# Altium footprint library Esp's.PcbLib: 2 footprints
Each footprint in its own frame and in the unit in brackets; x right, y up, seen from the top. Pads: shape width x height; smd on the part's side, far side on the other; paste and mask are expansions set on the pad; w line width, h text height; cw(c..) or ccw(c..) is an arc to the next point about the centre after c.
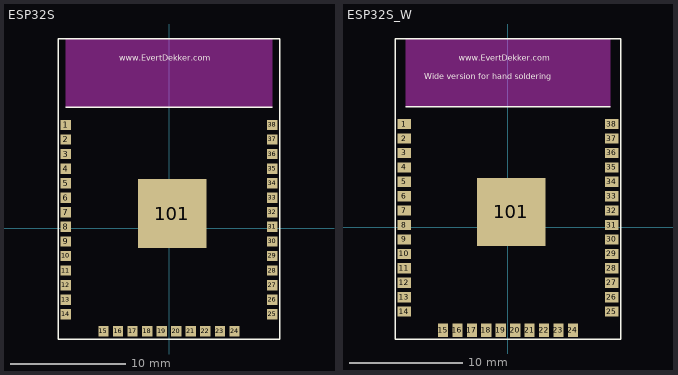
[diagram p0: the footprints below, top view; thin cyan lines are the x and y axes]

## ESP32S [mm] "ESP32S-Module"
height 2.8
pads (39):
  rect 0.9x0.9 smd: 1(-9.017,9) 2(-9.017,7.73) 3(-9.017,6.46) 4(-9.017,5.19) 5(-9.017,3.92) 6(-9.017,2.65) 7(-9.017,1.38) 8(-9.017,0.11) 9(-9.017,-1.16) 10(-9.017,-2.43) 11(-9.017,-3.7) 12(-9.017,-4.97) 13(-9.017,-6.24) 14(-9.017,-7.51) 15(-5.717,-9) 16(-4.447,-9) 17(-3.177,-9) 18(-1.907,-9) 19(-0.637,-9) 20(0.633,-9) 21(1.903,-9) 22(3.173,-9) 23(4.443,-9) 24(5.713,-9) 25(9.017,-7.51) 26(9.017,-6.24) 27(9.017,-4.97) 28(9.017,-3.7) 29(9.017,-2.43) 30(9.017,-1.16) 31(9.017,0.11) 32(9.017,1.38) 33(9.017,2.65) 34(9.017,3.92) 35(9.017,5.19) 36(9.017,6.46) 37(9.017,7.73) 38(9.017,9)
  rect 6x6 smd: 101(0.283,1.266)
Top Overlay:
  lines w0.127: -9.017,10.524 9.017,10.524 ; -9.652,-9.669 -9.652,16.493 9.652,16.493 9.652,-9.669 3.715,-9.669 -4.35,-9.669 -4.953,-9.669 -9.652,-9.669
  text "www.EvertDekker.com" at -4.318,14.588 h0.5
Keep-Out Layer:
  rectangle: -9.017,10.524 9.017,16.493
3D body "ESP32-WROOM-32D-56544.STEP": height 3.25, standoff 0, extent -8.746,-9.017 9.254,16.483

## ESP32S_W [mm] "Esp32S Module wide for hand soldering"
pads (39):
  rect 1.2x0.9 smd: 1(-9.144,9.08) 2(-9.144,7.81) 3(-9.144,6.54) 4(-9.144,5.271) 5(-9.144,4) 6(-9.144,2.73) 7(-9.144,1.46) 8(-9.144,0.191) 9(-9.144,-1.079) 10(-9.144,-2.349) 11(-9.144,-3.619) 12(-9.144,-4.889) 13(-9.144,-6.159) 14(-9.144,-7.429) 25(9.144,-7.429) 26(9.144,-6.159) 27(9.144,-4.889) 28(9.144,-3.619) 29(9.144,-2.349) 30(9.144,-1.079) 31(9.144,0.191) 32(9.144,1.46) 33(9.144,2.73) 34(9.144,4) 35(9.144,5.271) 36(9.144,6.54) 37(9.144,7.81) 38(9.144,9.08)
  rect 0.9x1.2 smd: 15(-5.715,-9.08) 16(-4.447,-9.08) 17(-3.177,-9.08) 18(-1.907,-9.08) 19(-0.637,-9.08) 20(0.633,-9.08) 21(1.903,-9.08) 22(3.173,-9.08) 23(4.443,-9.08) 24(5.713,-9.08)
  rect 6x6 smd: 101(0.283,1.346)
Top Overlay:
  lines w0.127: -9.017,10.604 9.017,10.604 ; -9.906,-9.842 9.906,-9.842 9.906,16.573 -9.906,16.573 -9.906,-9.842
  text "www.EvertDekker.com" at -4.318,14.668 h0.5
  text "Wide version for hand soldering" at -7.366,13.018 h0.5
Keep-Out Layer:
  rectangle: -9.017,10.604 9.017,16.573
3D body "ESP32-WROOM-32D-56544.STEP": height 3.25, standoff 0, extent -8.983,-8.89 9.017,16.61